# Altium schematic symbol library Buck_Converter.SchLib: 1 symbol
Pins are listed as number, name and electrical type; pins without a type are passive.

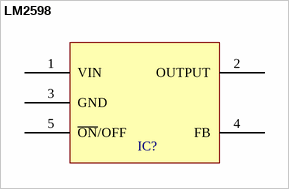
[diagram p0: symbol LM2598]

## LM2598
designator IC?, comment LM2596  (value not drawn)
footprint D2PAK
pins: 1 VIN, 2 OUTPUT, 3 GND, 4 FB, 5 ~{ON}/OFF